# EAGLE library part LED_C551SRD (library akita)
Single Digit Seven-Segment Display (cathode common)
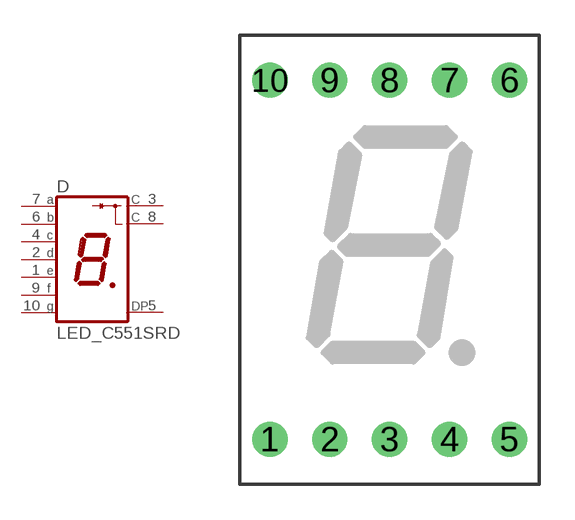
[diagram p9: symbol with the pads of LED7_1DIG; footprint LED7_1DIG]

Designator prefix D

## LED_C551SRD (OC_FARNELL: unknown; OC_NEWARK: unknown)  [LED7_1DIG]
1  E  pas
2  D  pas
3  C  pas
4  C  pas
5  DP  pas
6  B  pas
7  A  pas
8  C  pas
9  F  pas
10  G  pas

## Footprint LED7_1DIG (pad centres in mm)
Single Digit LED Numeric Display
drill 0.9 pad 1.5: 1 -3.81,-10.16; 2 -1.27,-10.16; 3 1.27,-10.16; 4 3.81,-10.16; 5 6.35,-10.16; 6 6.35,5.08; 7 3.81,5.08; 8 1.27,5.08; 9 -1.27,5.08; 10 -3.81,5.08